# Altium footprint library WE-DCT.PcbLib: 1 footprints
Each footprint in its own frame and in the unit in brackets; x right, y up, seen from the top. Pads: shape width x height; smd on the part's side, far side on the other; paste and mask are expansions set on the pad; w line width, h text height; cw(c..) or ccw(c..) is an arc to the next point about the centre after c.
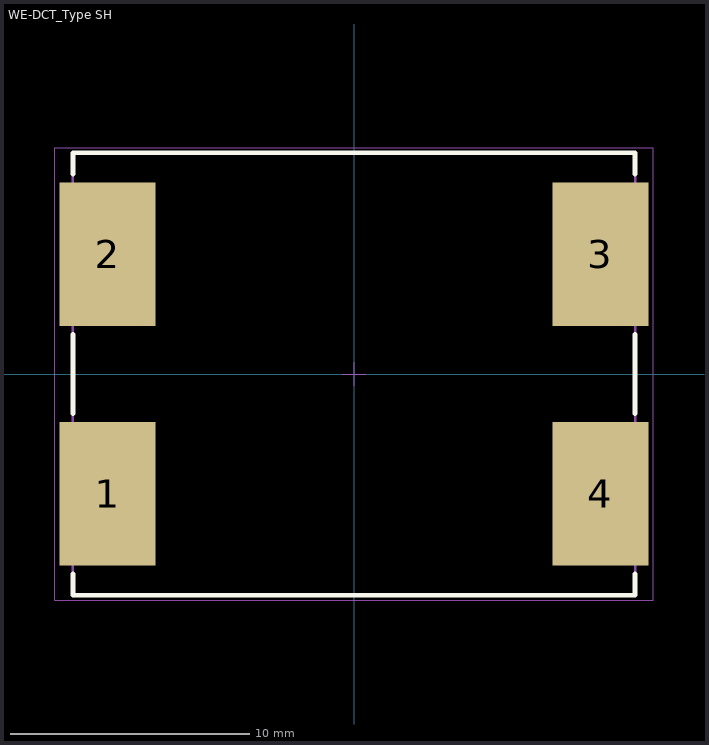
[diagram p0: the footprint, top view; thin cyan lines are the x and y axes]

## WE-DCT_Type SH [mm] "Toroidal Double Power Choke, body 23x18.5mm"
height 11.5
pads (4):
  rect 4x6 smd: 1(-10.3,-5) 2(-10.3,5) 3(10.3,5) 4(10.3,-5)
Top Overlay:
  lines w0.2: -11.75,-8.35 -11.75,-9.25 11.75,-9.25 11.75,-8.35 ; -11.75,-1.65 -11.75,1.65 ; -11.75,8.35 -11.75,9.25 11.75,9.25 11.75,8.35 ; 11.75,-1.65 11.75,1.65
Top Designator:
  text ".Designator" at -7.498,-0.5 h1.5
Top Component Outline:
  lines w0.1: -11.75,-9.25 -11.75,9.25 11.75,9.25 11.75,-9.25 -11.75,-9.25
Top 3D Body:
  lines w0.1: -11.75,-9.25 -11.75,9.25 11.75,9.25 11.75,-9.25 -11.75,-9.25
Top Courtyard:
  lines w0.05: -0.5,0 0.5,0 ; 0,-0.5 0,0.5 ; -12.5,-9.45 -12.5,9.45 12.5,9.45 12.5,-9.45 -12.5,-9.45
3D body "744851xxx.stp": height 11.05, standoff 0, extent -11.75,-9 11.75,9